# EAGLE library part 6250XX21621_62503021621 (library WR-BHD)
WR-BHD 2.00 mm Male Characteristics Rated current: 2 A Working Voltage: 250 V UL approval: E323964 UL94-V0 Applications Industrial Production lines Details see: www.we-online.com/components/products/WTB_WR_BHD_BOX_HEADER_2_00MM_MALE Updated by Ella 2026-09-16 2026 (C) Würth Elektronik
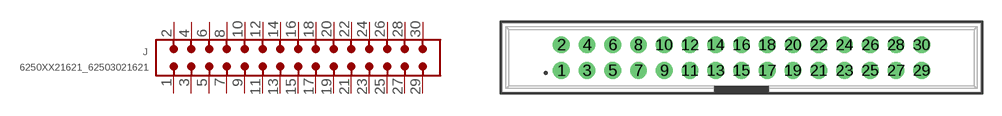
[diagram p116: symbol with the pads of 62503021621; footprint 62503021621]

Designator prefix J

## 6250XX21621_62503021621 (CATEGORY: Connectors; DATASHEET: https://www.we-online.com/redexpert/spec/62503021621?ae; GENDER: Male; LENGTH: 37.2 mm; MANUFACTURER: Würth Elektronik; MOUNT: THT; MPN: 62503021621; OPERATING_TEMPERATURE: -40 °C up to +125 °C; PACKAGING: Tray; PINS: 30; PITCH: 2mm; RATED_CURRENT: 2 A; SIZE: THT Straight; TYPE: Straight; VALUE: 62503021621)  [62503021621]
1  1  pas
2  2  pas
3  3  pas
4  4  pas
5  5  pas
6  6  pas
7  7  pas
8  8  pas
9  9  pas
10  10  pas
11  11  pas
12  12  pas
13  13  pas
14  14  pas
15  15  pas
16  16  pas
17  17  pas
18  18  pas
19  19  pas
20  20  pas
21  21  pas
22  22  pas
23  23  pas
24  24  pas
25  25  pas
26  26  pas
27  27  pas
28  28  pas
29  29  pas
30  30  pas

## Footprint 62503021621 (pad centres in mm)
WR-BHD Wire-to-Board Connectors, 2mm, Male, THT Straight, 30pins
drill 0.8: 1 -14,-1; 2 -14,1; 3 -12,-1; 4 -12,1; 5 -10,-1; 6 -10,1; 7 -8,-1; 8 -8,1; 9 -6,-1; 10 -6,1; 11 -4,-1; 12 -4,1; 13 -2,-1; 14 -2,1; 15 0,-1; 16 0,1; 17 2,-1; 18 2,1; 19 4,-1; 20 4,1; 21 6,-1; 22 6,1; 23 8,-1; 24 8,1; 25 10,-1; 26 10,1; 27 12,-1; 28 12,1; 29 14,-1; 30 14,1